# Altium footprint library UDFN-8 (2x2).PcbLib: 1 footprints
Each footprint in its own frame and in the unit in brackets; x right, y up, seen from the top. Pads: shape width x height; smd on the part's side, far side on the other; paste and mask are expansions set on the pad; w line width, h text height; cw(c..) or ccw(c..) is an arc to the next point about the centre after c.
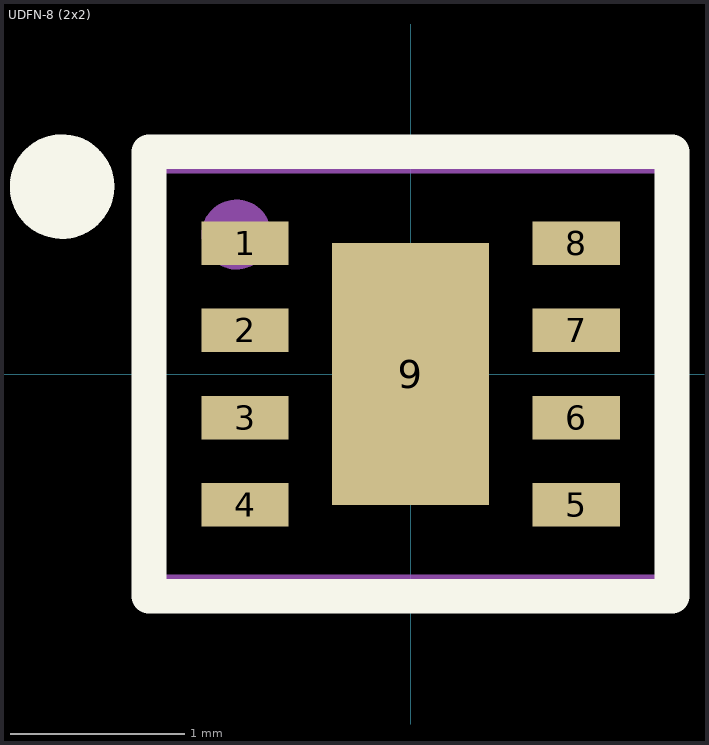
[diagram p0: the footprint, top view; thin cyan lines are the x and y axes]

## UDFN-8 (2x2) [mm]
pads (9):
  rect 0.5x0.25 smd: 1(-0.95,0.75) 2(-0.95,0.25) 3(-0.95,-0.25) 4(-0.95,-0.75) 5(0.95,-0.75) 6(0.95,-0.25) 7(0.95,0.25) 8(0.95,0.75)
  rect 0.9x1.5 smd: 9(0,0)
Top Overlay:
  circle w0.3: c-2,1.075 r0.15
  lines w0.2: -1.5,-1.275 -1.5,1.275 1.5,1.275 1.5,-1.275 -1.5,-1.275
Top Assembly:
  circle w0.2: c-1,0.8 r0.1
  lines w0.1: -1.5,-1.2 -1.5,1.2 1.5,1.2 1.5,-1.2 -1.5,-1.2
  text "'.Designator'" at -0.65,-0.35 h0.7
3D body "User Library-UDFN-8.step": height 0.59, standoff -0.01, extent -1,-1 1,1